# Altium schematic symbol library LED Lighting - White.SchLib: 3 symbols
Pins are listed as number, name and electrical type; pins without a type are passive.

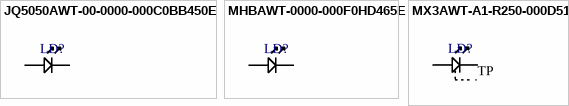
[diagram p0: symbols JQ5050AWT-00-0000-000C0BB450E to MX3AWT-A1-R250-000D51]

## JQ5050AWT-00-0000-000C0BB450E
designator LD?  (value not drawn)
LED WHITE CRI 70 5000K JQ5050 9V; Supplier 1: Digi-Key; Supplier 2: Farnell; Supplier 3: Mouser; Supplier 4: Arrow Electronics; Supplier Part Number 1: JQ5050AWT-00-0000-000C0BB450ECT-ND; Supplier Part Number 2: 2853294; Supplier Part Number 3: 941-JQ5050W00C0BB450; Supplier Part Number 4: JQ5050AWT-00-0000-000C0BB450E
footprint CREE_J-5050
pins: 1 A+, 2 C-

## MHBAWT-0000-000F0HD465E
designator LD?  (value not drawn)
LED XLAMP 6500K WHITE 18V SMD
footprint CREE_MHB-A-5050
pins: 1 A+, 2 C-

## MX3AWT-A1-R250-000D51
designator LD?  (value not drawn)
LED XLAMP COOL WHITE 6500K 2SMD; Supplier 1: Digi-Key; Supplier 2: Mouser; Supplier Part Number 1: MX3AWT-A1-R250-000D51CT-ND; Supplier Part Number 2: 941-MX3AWTA1R2500D51
footprint CREE_MX3AWT-5050
pins: 1 A+, 2 C-, TP